# EAGLE library part AZD_ESP-32DEVKITC (library dl9sec_public)
AZ-Delivery ESP-32 DevKitC https://www.az-delivery.de/products/esp32-developmentboard?ls=de&cache=false https://cdn.shopify.com/s/files/1/1509/1638/files/ESP_-_32_NodeMCU_Developmentboard_Pinout_Diagram.jpg?4479111012146266271 https://bibliothek.az-delivery.de/wp-content/uploads/2018/01/4-AZ-Delivery_ESP32-Development-Board_Startertutorial.pdf
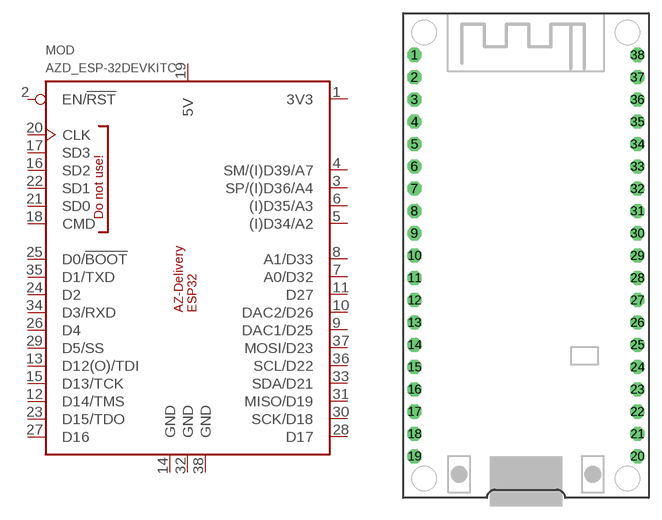
[diagram p0: symbol with the pads of AZD_ESP-32DEVKITC; footprint AZD_ESP-32DEVKITC]

Designator prefix MOD

## AZD_ESP-32DEVKITC  [AZD_ESP-32DEVKITC]
1  3V3  pas
2  EN/!RST!  in
3  SP/(I)D36/A4  in
4  SM/(I)D39/A7  in
5  (I)D34/A2  in
6  (I)D35/A3  in
7  A0/D32
8  A1/D33
9  DAC1/D25
10  DAC2/D26
11  D27
12  D14/TMS
13  D12(O)/TDI
14  GND  pwr
15  D13/TCK
16  SD2
17  SD3
18  CMD
19  5V  pwr
20  CLK
21  SD0
22  SD1
23  D15/TDO
24  D2
25  D0/!BOOT!
26  D4
27  D16
28  D17
29  D5/SS
30  SCK/D18
31  MISO/D19
32  GND  pwr
33  SDA/D21
34  D3/RXD
35  D1/TXD
36  SCL/D22
37  MOSI/D23
38  GND  pwr

## Footprint AZD_ESP-32DEVKITC (pad centres in mm)
AZ-Delivery ESP-32 DevKitC
drill 0.8 pad 1.6 octagon: 1 -12.7,22.86; 2 -12.7,20.32; 3 -12.7,17.78; 4 -12.7,15.24; 5 -12.7,12.7; 6 -12.7,10.16; 7 -12.7,7.62; 8 -12.7,5.08; 9 -12.7,2.54; 10 -12.7,0; 11 -12.7,-2.54; 12 -12.7,-5.08; 13 -12.7,-7.62; 14 -12.7,-10.16; 15 -12.7,-12.7; 16 -12.7,-15.24; 17 -12.7,-17.78; 18 -12.7,-20.32; 19 -12.7,-22.86; 20 12.7,-22.86; 21 12.7,-20.32; 22 12.7,-17.78; 23 12.7,-15.24; 24 12.7,-12.7; 25 12.7,-10.16; 26 12.7,-7.62; 27 12.7,-5.08; 28 12.7,-2.54; 29 12.7,0; 30 12.7,2.54; 31 12.7,5.08; 32 12.7,7.62; 33 12.7,10.16; 34 12.7,12.7; 35 12.7,15.24; 36 12.7,17.78; 37 12.7,20.32; 38 12.7,22.86